# EAGLE library part PI3_HEADER (library Labops_Lib_AH)
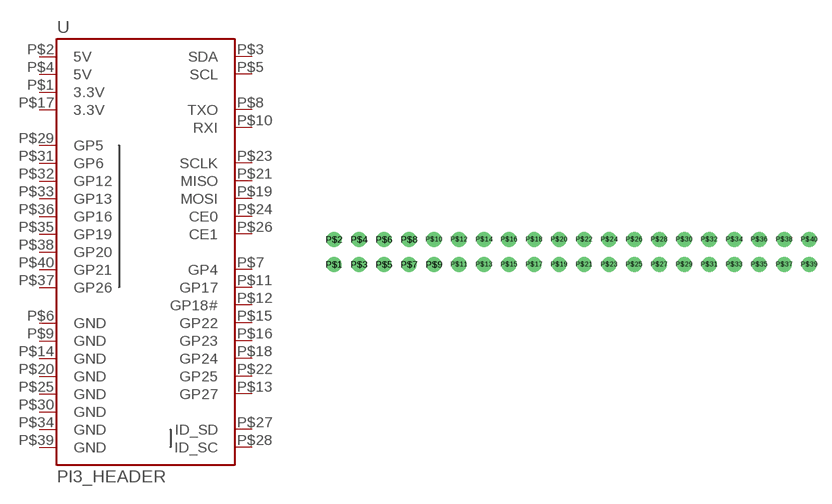
[diagram p9: symbol with the pads of HEADER_2_X_20_.1_INCH; footprint HEADER_2_X_20_.1_INCH]

Designator prefix -

## PI3_HEADER  [HEADER_2_X_20_.1_INCH]
P$1  3.3V  pwr
P$2  5V  pwr
P$3  SDA
P$4  5V  pwr
P$5  SCL
P$6  GND  pwr
P$7  GP4
P$8  TXO  out
P$9  GND  pwr
P$10  RXI  in
P$11  GP17
P$12  GP18#
P$13  GP27
P$14  GND  pwr
P$15  GP22
P$16  GP23
P$17  3.3V  pwr
P$18  GP24
P$19  MOSI  out
P$20  GND  pwr
P$21  MISO  in
P$22  GP25
P$23  SCLK  out
P$24  CE0  out
P$25  GND  pwr
P$26  CE1  out
P$27  ID_SD
P$28  ID_SC
P$29  GP5
P$30  GND  pwr
P$31  GP6
P$32  GP12
P$33  GP13
P$34  GND  pwr
P$35  GP19
P$36  GP16
P$37  GP26
P$38  GP20
P$39  GND  pwr
P$40  GP21

## Footprint HEADER_2_X_20_.1_INCH (pad centres in mm)
drill 1: P$1 -24.13,-1.27; P$2 -24.13,1.27; P$3 -21.59,-1.27; P$4 -21.59,1.27; P$5 -19.05,-1.27; P$6 -19.05,1.27; P$7 -16.51,-1.27; P$8 -16.51,1.27; P$9 -13.97,-1.27; P$10 -13.97,1.27; P$11 -11.43,-1.27; P$12 -11.43,1.27; P$13 -8.89,-1.27; P$14 -8.89,1.27; P$15 -6.35,-1.27; P$16 -6.35,1.27; P$17 -3.81,-1.27; P$18 -3.81,1.27; P$19 -1.27,-1.27; P$20 -1.27,1.27; P$21 1.27,-1.27; P$22 1.27,1.27; P$23 3.81,-1.27; P$24 3.81,1.27; P$25 6.35,-1.27; P$26 6.35,1.27; P$27 8.89,-1.27; P$28 8.89,1.27; P$29 11.43,-1.27; P$30 11.43,1.27; P$31 13.97,-1.27; P$32 13.97,1.27; P$33 16.51,-1.27; P$34 16.51,1.27; P$35 19.05,-1.27; P$36 19.05,1.27; P$37 21.59,-1.27; P$38 21.59,1.27; P$39 24.13,-1.27; P$40 24.13,1.27